# Altium footprint library KEYSTONE_1035.PcbLib: 1 footprints
Each footprint in its own frame and in the unit in brackets; x right, y up, seen from the top. Pads: shape width x height; smd on the part's side, far side on the other; paste and mask are expansions set on the pad; w line width, h text height; cw(c..) or ccw(c..) is an arc to the next point about the centre after c.
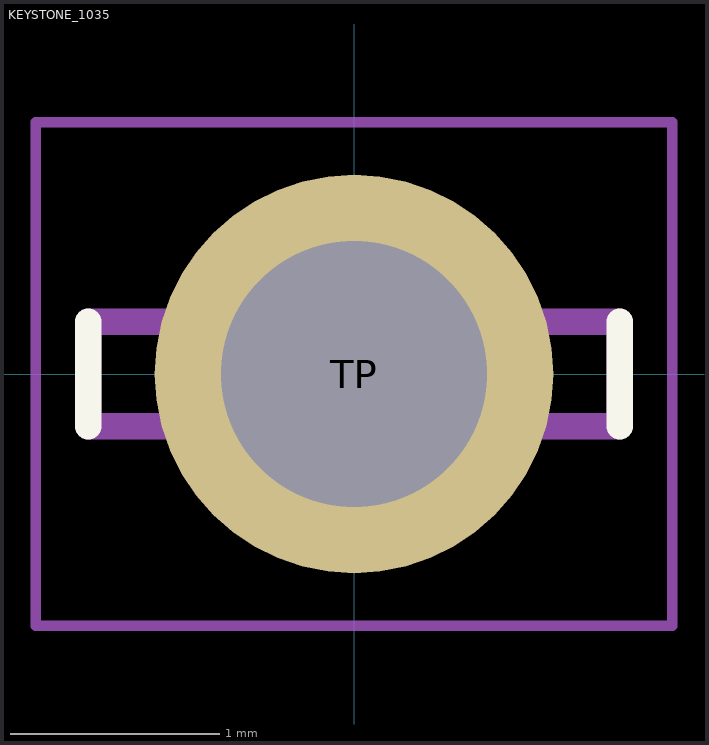
[diagram p0: the footprint, top view; thin cyan lines are the x and y axes]

## KEYSTONE_1035 [mil]
height 218.11
pads (1):
  round 75 hole 50: TP(0,0)
Top Overlay:
  lines w5: -50,-9.84 -50,9.84 ; 50,-9.84 50,9.84
Assembly Top:
  lines w5: -50,-9.84 -50,9.84 50,9.84 50,-9.84 -50,-9.84
Courtyard Top:
  lines w1.97: -59.84,-47.34 59.84,-47.34 59.84,47.34 -59.84,47.34 -59.84,-47.34
3D body "step_temp.STEP": height 220, standoff -115, extent -50,-12.5 50,7.5